# EAGLE library part LD09P24A4GV00LF (library LD09P24A4GV00LF)
Amphenol FCI LD Series, 9 Way Plug-In Mount D-sub Connector Plug, 2.74mm Pitch, with Screw Source: Datasheet <https://www.mouser.com/datasheet/2/18/10130912-1362365.pdf>
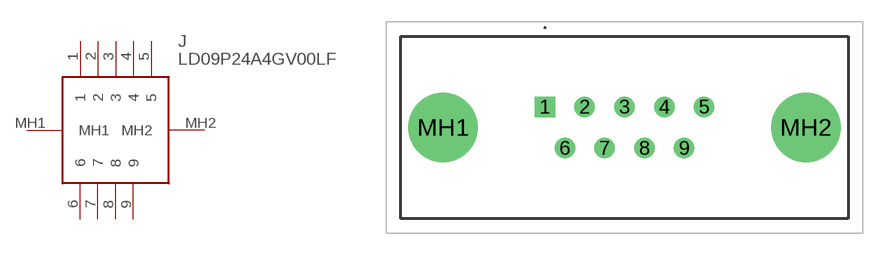
[diagram p0: symbol with the pads of LD09P24A4GV00LF; footprint LD09P24A4GV00LF]

Designator prefix J

## LD09P24A4GV00LF (Arrow_Part_Number: LD09P24A4GV00LF; Arrow_Price-Stock: https://www.arrow.com/en/products/ld09p24a4gv00lf/amphenol-fci?region=nac; Description: Amphenol FCI LD Series, 9 Way Plug-In Mount D-sub Connector Plug, 2.74mm Pitch, with Screw; Height: 12.15mm; Manufacturer_Name: Amphenol Communication Solutions; Manufacturer_Part_Number: LD09P24A4GV00LF; Mouser_Part_Number: 649-LD09P24A4GV00LF; Mouser_Price-Stock: https://www.mouser.co.uk/ProductDetail/Amphenol-FCI/LD09P24A4GV00LF?qs=tZOhSuJQg1nfkziarphghA%3D%3D)  [LD09P24A4GV00LF]
1  1
2  2
3  3
4  4
5  5
6  6
7  7
8  8
9  9
MH1  MH1
MH2  MH2

## Footprint LD09P24A4GV00LF (pad centres in mm)
LD09P24A4GV00LF-
drill 0.9 pad 1.4 square: 1 0,0
drill 0.9 pad 1.4: 2 2.74,0; 3 5.48,0; 4 8.22,0; 5 10.96,0; 6 1.37,-2.84; 7 4.11,-2.84; 8 6.85,-2.84; 9 9.59,-2.84
drill 3.2 pad 4.8: MH1 -7.015,-1.42; MH2 17.975,-1.42